# EAGLE library part MC33897 (library can)
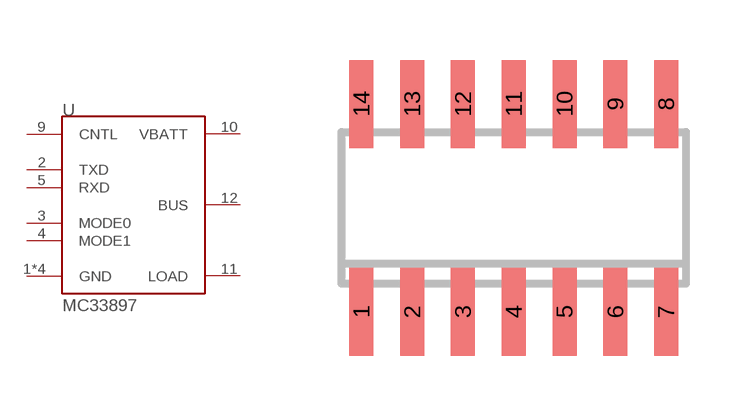
[diagram p1: symbol with the pads of SO14; footprint SO14]

Designator prefix U

## MC33897  [SO14]
1  GND
2  TXD
3  MODE0
4  MODE1
5  RXD
7  GND
8  GND
9  CNTL
10  VBATT
11  LOAD
12  BUS
14  GND

## Footprint SO14 (pad centres in mm)
SMALL OUTLINE INTEGRATED CIRCUIT body 3.9 mm/JEDEC MS-012AC
smd 0.6 x 2.2: 1 -3.81,-2.6; 2 -2.54,-2.6; 3 -1.27,-2.6; 4 0,-2.6; 5 1.27,-2.6; 6 2.54,-2.6; 7 3.81,-2.6; 8 3.81,2.6; 9 2.54,2.6; 10 1.27,2.6; 11 0,2.6; 12 -1.27,2.6; 13 -2.54,2.6; 14 -3.81,2.6